# EAGLE library part LT8390EFE#PBF (library Artemis)
DC/DC Cntrlr Single-OUT Step Down/Step Up 630kHz Automotive 28-Pin TSSOP EP Tube Check prices <https://pricing.snapeda.com/parts/LT8390EFE%23PBF/Analog%20Devices/view-part?ref=eda>
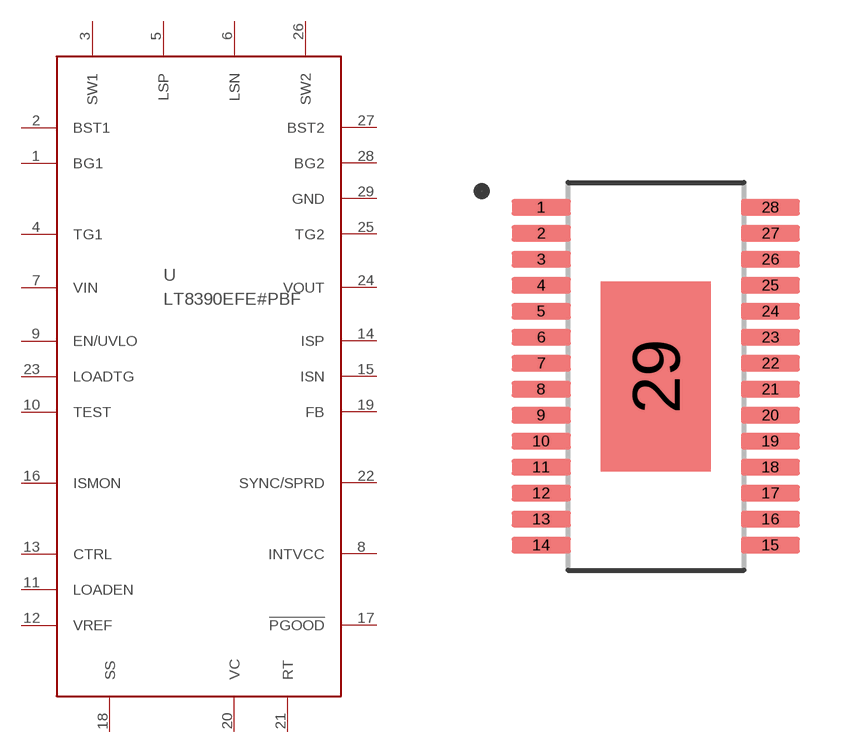
[diagram p3: symbol with the pads of SOP65P640X120-29N; footprint SOP65P640X120-29N]

Designator prefix U

## LT8390EFE#PBF (AVAILABILITY: No availability data; DESCRIPTION: DC/DC Cntrlr Single-OUT Step Down/Step Up 630kHz Automotive 28-Pin TSSOP EP Tube; MF: Analog Devices; MP: LT8390EFE#PBF; PACKAGE: TSSOP -28 Analog Devices; PRICE: None)  [SOP65P640X120-29N]
1  BG1  pas
2  BST1  in
3  SW1  out
4  TG1  pas
5  LSP  pas
6  LSN  pas
7  VIN  in
8  INTVCC  out
9  EN/UVLO  in
10  TEST
11  LOADEN  in
12  VREF  out
13  CTRL  in
14  ISP  pas
15  ISN  pas
16  ISMON  out
17  !PGOOD  out
18  SS  in
19  FB  in
20  VC  out
21  RT  in
22  SYNC/SPRD  in
23  LOADTG  out
24  VOUT  out
25  TG2  pas
26  SW2  out
27  BST2  in
28  BG2  pas
29  GND  pwr

## Footprint SOP65P640X120-29N (pad centres in mm)
smd 1.48 x 0.41: 1 -2.865,4.225; 2 -2.865,3.575; 3 -2.865,2.925; 4 -2.865,2.275; 5 -2.865,1.625; 6 -2.865,0.975; 7 -2.865,0.325; 8 -2.865,-0.325; 9 -2.865,-0.975; 10 -2.865,-1.625; 11 -2.865,-2.275; 12 -2.865,-2.925; 13 -2.865,-3.575; 14 -2.865,-4.225; 15 2.865,-4.225; 16 2.865,-3.575; 17 2.865,-2.925; 18 2.865,-2.275; 19 2.865,-1.625; 20 2.865,-0.975; 21 2.865,-0.325; 22 2.865,0.325; 23 2.865,0.975; 24 2.865,1.625; 25 2.865,2.275; 26 2.865,2.925; 27 2.865,3.575; 28 2.865,4.225
smd 2.74 x 4.75: 29 0,0